# Altium schematic symbol library MUSB-05-S-B-SM-A.SchLib: 1 symbol
Pins are listed as number, name and electrical type; pins without a type are passive.

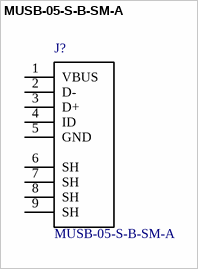
[diagram p0: symbol MUSB-05-S-B-SM-A]

## MUSB-05-S-B-SM-A
designator J?
Usb Interface 5-Contacts Surfacemount For Mini Usb Gold Mating Tin On Tails; MF: Samtec; Package: None; MP: MUSB-05-S-B-SM-A; Digi-Key_Purchase_URL: https://www.digikey.com/product-detail/en/samtec-inc/MUSB-05-S-B-SM-A/SAM8841-ND/2664354?utm_source=snapeda&utm_medium=aggregator&utm_campaign=symbol; Digi-Key_Part_Number: SAM8841-ND; SnapEDA_Link: https://www.snapeda.com/parts/MUSB-05-S-B-SM-A/Samtec%20Inc./view-part/?ref=snap; Value: *
footprint *SAMTEC_MUSB-05-S-B-SM-A
pins: 1 VBUS, 2 D-, 3 D+, 4 ID, 5 GND, 6 SH, 7 SH, 8 SH, 9 SH